# EAGLE library part ATTINY85 (library adlr)
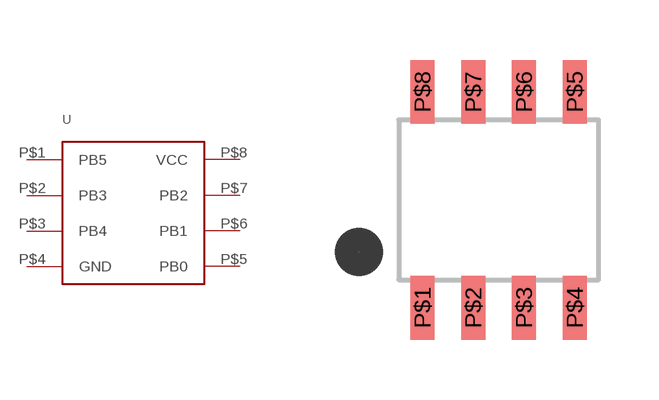
[diagram p2: symbol with the pads of 8-SOIC; footprint 8-SOIC]

Designator prefix U

## ATTINY85  [8-SOIC]
P$1  PB5
P$2  PB3
P$3  PB4
P$4  GND
P$5  PB0
P$6  PB1
P$7  PB2
P$8  VCC

## Footprint 8-SOIC (pad centres in mm)
smd 0.6 x 1.6: P$1 -1.905,-2.7; P$2 -0.635,-2.7; P$3 0.635,-2.7; P$4 1.905,-2.7; P$5 1.905,2.7; P$6 0.635,2.7; P$7 -0.635,2.7; P$8 -1.905,2.7